# EAGLE library part POE-RJ45 (library SmartPrj)
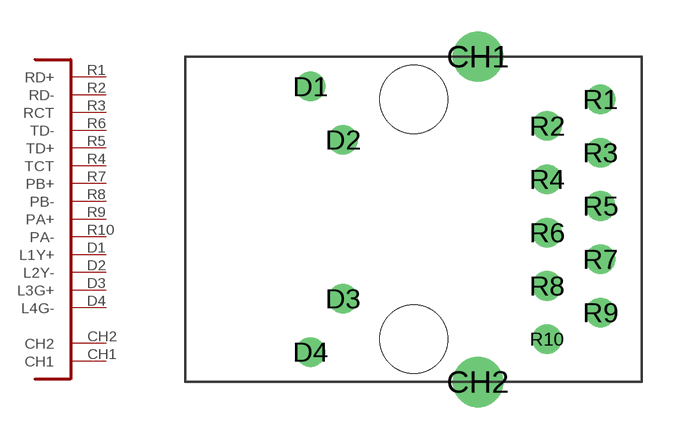
[diagram p0: symbol with the pads of POE-RJ45; footprint POE-RJ45]

Designator prefix -

## POE-RJ45  [POE-RJ45]
CH1  CH1
CH2  CH2
D1  L1Y+
D2  L2Y-
D3  L3G+
D4  L4G-
R1  RD+
R2  RD-
R3  RCT
R4  TCT
R5  TD+
R6  TD-
R7  PB+
R8  PB-
R9  PA+
R10  PA-

## Footprint POE-RJ45 (pad centres in mm)
drill 1.6: CH1 13.94,7.75; CH2 13.94,-7.75
drill 0.9: D1 5.969,6.325; D2 7.518,3.785; D3 7.518,-3.785; D4 5.969,-6.325; R1 19.77,5.715; R2 17.23,4.445; R3 19.77,3.175; R4 17.23,1.905; R5 19.77,0.635; R6 17.23,-0.635; R7 19.77,-1.905; R8 17.23,-3.175; R9 19.77,-4.445; R10 17.23,-5.715
hole 3.25 at 10.89,5.715
hole 3.25 at 10.89,-5.715